# Altium schematic symbol library motor_driver_schLib.SchLib: 12 symbols
Pins are listed as number, name and electrical type; pins without a type are passive.

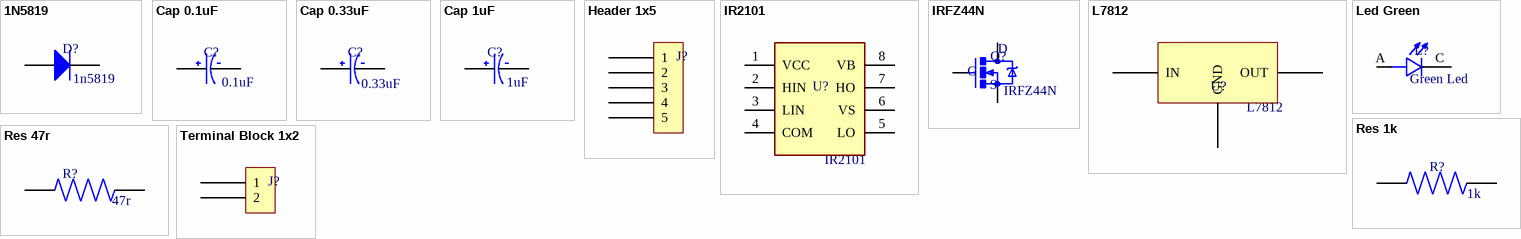
[diagram p0: symbols 1N5819 to Terminal Block 1x2]

## 1N5819
designator D?  Name: 1n5819  (hidden comment: *)
DIODE SCHOTTKY 1A 40V BULK
footprint 1n5819
pins: 1 A, 2 K

## Cap 0.1uF
designator C?  value 0.1uF  (hidden comment: *)
Aluminium Electrolytic Capacitor Radial Leaded  0.1uF 50V
footprint Radial Capacitor
pins: NEG, POS

## Cap 0.33uF
designator C?  value 0.33uF  (hidden comment: *)
Aluminium Electrolytic Capacitor Radial Leaded  0.33uF 50V
footprint Radial Capacitor
pins: NEG, POS

## Cap 1uF
designator C?  value 1uF  (hidden comment: *)
Aluminium Electrolytic Capacitor Radial Leaded  1uF 50V
footprint Radial Capacitor
pins: NEG, POS

## Header 1x5
designator J?  (value not drawn)
5 Pin (1x5) 2.54mm Male Pin Header THT
footprint HEADER 1X5 3.5MM
pins: 1, 2, 3, 4, 5

## IR2101
designator U?  Name: IR2101  (hidden comment: *)
The IR2101(S)/IR2102(S) are high voltage, high speed / power MOSFET and IGBT drivers with independent / high and low side referenced output channels. Proprietary HVIC and latch immune CMOS technologies / enable ruggedized monolithic construction. The logic / input is compatible with standard CMOS or LSTTL / output, down to 3.3V logic. The output drivers feature a high pulse current buffer stage designed for minimum / driver cross-conduction. The floating channel can be used to drive an N-channel power MOSFET or IGBT in / the high side configuration which operates up to 600 volts.
footprint PDIP-8
pins: 1 VCC, 2 HIN, 3 LIN, 4 COM, 5 LO, 6 VS, 7 HO, 8 VB

## IRFZ44N
designator Q?  Name: IRFZ44N  (hidden comment: *)
Designed for low voltage, high speed switching applications in / power supplies, converters and power motor controls, these / devices are particularly well suited for bridge circuits where / diode speed and commutating safe operating areas are critical / and offer additional safety margin against unexpected voltage / transients.
footprint TO-220
pins: 1 G, 2 D, 3 S

## L7812
designator U?  Name: L7812  (hidden comment: *)
The L7800 series of three-terminal positive / regulators is available in TO-220 ISOWATT220 / TO-3 and D2PAK packages and several fixed / output voltages, making it useful in a wide range / of applications.These regulators can provide local / on-card regulation, eliminating the distribution / problems associated with single point regulation. / Each type employs internal current limiting, / thermal shut-down and safe area protection, / making it essentially indestructible. If adequate / heat sinking is provided, they can deliver over 1A / output current. Although designed primarily as / fixed voltage regulators, these devices can be / used with external components to obtain / adjustable voltages and currents.
footprint TO-220
pins: 1 IN, 2 GND, 3 OUT

## Led Green
designator L?  Name: Green Led  (hidden comment: *)
HQG 5mm Led Green - 400-500 mcd
footprint LED 5MM
pins: A, C

## Res 1k
designator R?  value 1k  (hidden comment: *)
Carbon Film Resistor Through Hole 1k
footprint RESISTOR THT
pins: 1, 2

## Res 47r
designator R?  value 47r  (hidden comment: *)
Carbon Film Resistor Through Hole 47r
footprint RESISTOR THT
pins: 1, 2

## Terminal Block 1x2
designator J?  (value not drawn)
Fixed Terminal Block , screw type, 5.08 , horizontal, 2 poles, CUI Blue, slotted screw, PCB mount
footprint TERMINAL BLOCK 1X2 3.5MM
pins: 1, 2